# Altium footprint library FPC1.0.PcbLib: 1 footprints
Each footprint in its own frame and in the unit in brackets; x right, y up, seen from the top. Pads: shape width x height; smd on the part's side, far side on the other; paste and mask are expansions set on the pad; w line width, h text height; cw(c..) or ccw(c..) is an arc to the next point about the centre after c.
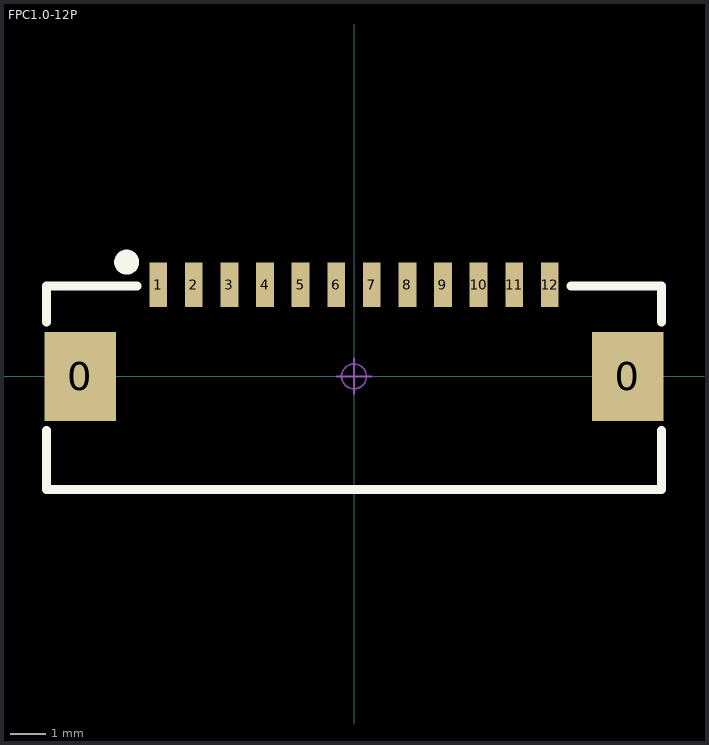
[diagram p0: the footprint, top view; thin cyan lines are the x and y axes]

## FPC1.0-12P [mm] "翻盖FPC，脚距1mm，不含脚（长16.9mm，宽5.2mm，高1.96mm）"
pads (14):
  rect 2x2.5 smd: 0(-7.69,0) 0(7.69,0)
  rect 0.5x1.25 smd: 1(-5.5,2.575) 2(-4.5,2.575) 3(-3.5,2.575) 4(-2.5,2.575) 5(-1.5,2.575) 6(-0.5,2.575) 7(0.5,2.575) 8(1.5,2.575) 9(2.5,2.575) 10(3.5,2.575) 11(4.5,2.575) 12(5.5,2.575)
Top Overlay:
  circle w0.5: c-6.389,3.21 r0.1
  lines w0.254: -8.636,-1.524 -8.636,-3.175 8.636,-3.175 8.636,-1.524 ; -8.636,1.524 -8.636,2.54 -6.096,2.54 ; 6.096,2.54 8.636,2.54 8.636,1.524
Mechanical 15:
  circle w0.05: c0,0 r0.35
  lines w0.05: -0.5,0 0.5,0 ; 0,-0.5 0,0.5
3D body "FPC1.0-12P.STEP": height 2, standoff -0.01, extent -8.5,-2.97 8.5,2.95